# EAGLE library part LPC43*BD (library ic-NXP)
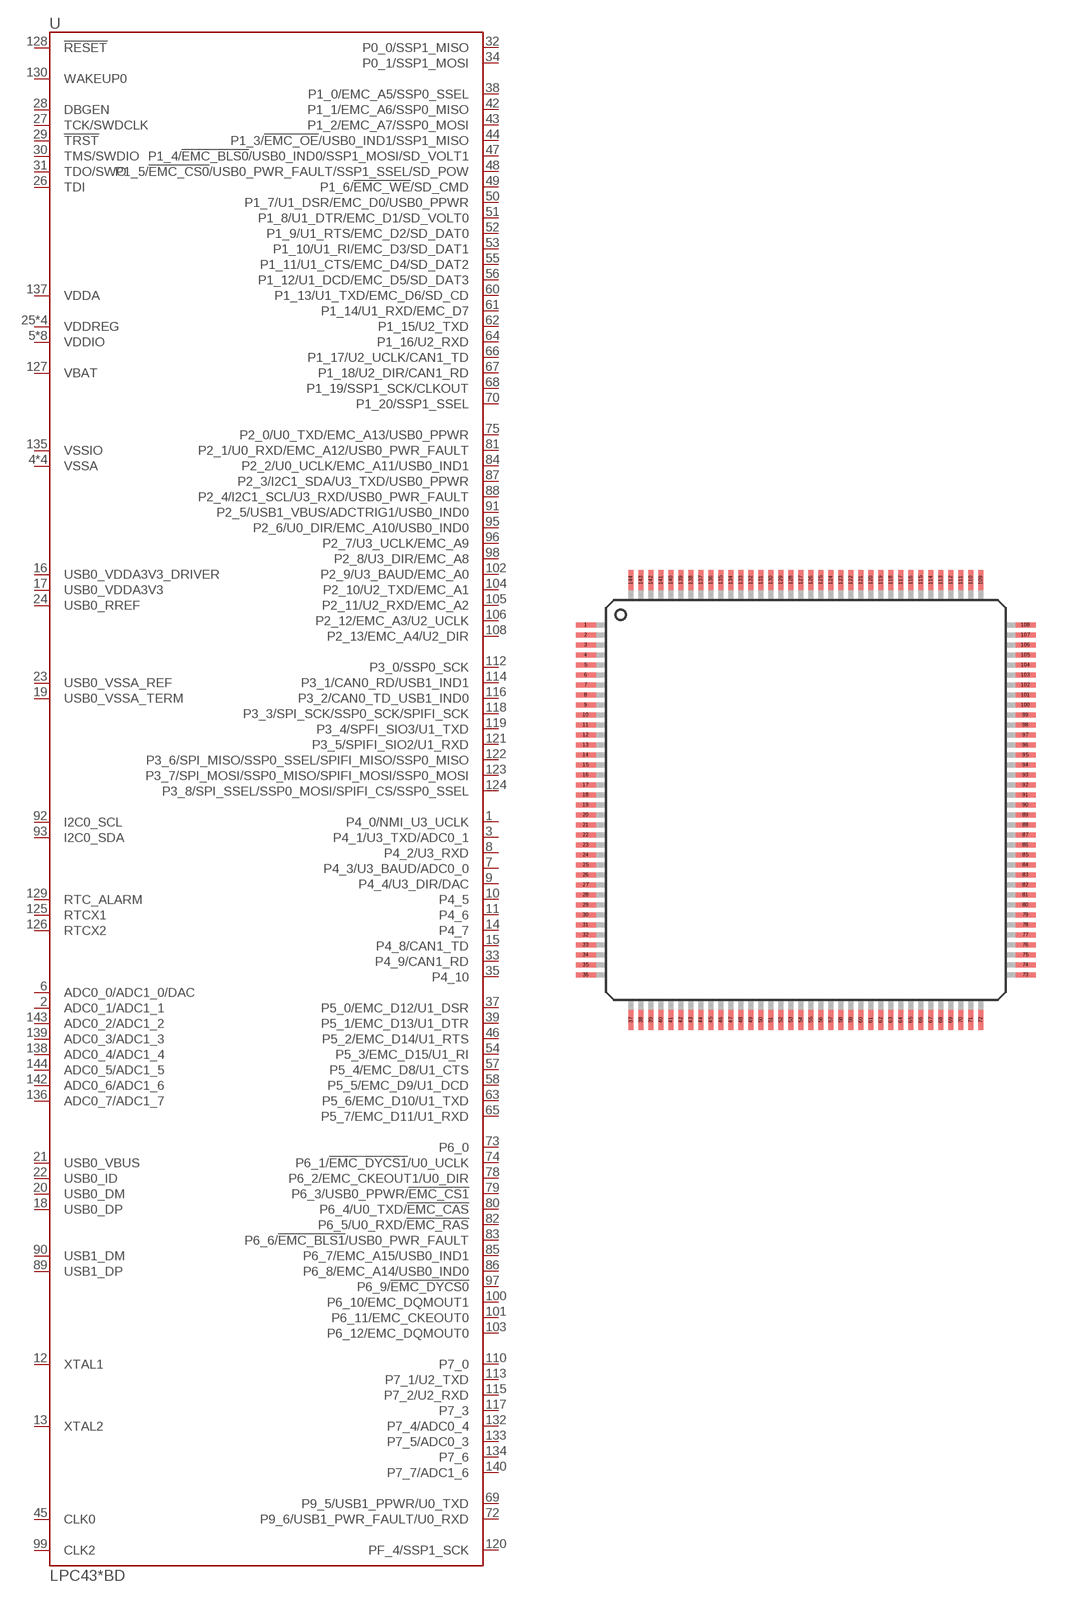
[diagram p5: symbol with the pads of QFP144-0.5; footprint QFP144-0.5]

Designator prefix U

## LPC4330FBD  [QFP144-0.5]
1  P4_0/NMI_U3_UCLK
2  ADC0_1/ADC1_1
3  P4_1/U3_TXD/ADC0_1
4  VSSA
5  VDDIO
6  ADC0_0/ADC1_0/DAC
7  P4_3/U3_BAUD/ADC0_0
8  P4_2/U3_RXD
9  P4_4/U3_DIR/DAC
10  P4_5
11  P4_6
12  XTAL1
13  XTAL2
14  P4_7
15  P4_8/CAN1_TD
16  USB0_VDDA3V3_DRIVER
17  USB0_VDDA3V3
18  USB0_DP
19  USB0_VSSA_TERM
20  USB0_DM
21  USB0_VBUS
22  USB0_ID
23  USB0_VSSA_REF
24  USB0_RREF
25  VDDREG
26  TDI
27  TCK/SWDCLK
28  DBGEN
29  !TRST
30  TMS/SWDIO
31  TDO/SWO
32  P0_0/SSP1_MISO
33  P4_9/CAN1_RD
34  P0_1/SSP1_MOSI
35  P4_10
36  VDDIO
37  P5_0/EMC_D12/U1_DSR
38  P1_0/EMC_A5/SSP0_SSEL
39  P5_1/EMC_D13/U1_DTR
40  VSSA
41  VDDIO
42  P1_1/EMC_A6/SSP0_MISO
43  P1_2/EMC_A7/SSP0_MOSI
44  P1_3/!EMC_OE!/USB0_IND1/SSP1_MISO
45  CLK0
46  P5_2/EMC_D14/U1_RTS
47  P1_4/!EMC_BLS0!/USB0_IND0/SSP1_MOSI/SD_VOLT1
48  P1_5/!EMC_CS0!/USB0_PWR_FAULT/SSP1_SSEL/SD_POW
49  P1_6/!EMC_WE!/SD_CMD
50  P1_7/U1_DSR/EMC_D0/USB0_PPWR
51  P1_8/U1_DTR/EMC_D1/SD_VOLT0
52  P1_9/U1_RTS/EMC_D2/SD_DAT0
53  P1_10/U1_RI/EMC_D3/SD_DAT1
54  P5_3/EMC_D15/U1_RI
55  P1_11/U1_CTS/EMC_D4/SD_DAT2
56  P1_12/U1_DCD/EMC_D5/SD_DAT3
57  P5_4/EMC_D8/U1_CTS
58  P5_5/EMC_D9/U1_DCD
59  VDDREG
60  P1_13/U1_TXD/EMC_D6/SD_CD
61  P1_14/U1_RXD/EMC_D7
62  P1_15/U2_TXD
63  P5_6/EMC_D10/U1_TXD
64  P1_16/U2_RXD
65  P5_7/EMC_D11/U1_RXD
66  P1_17/U2_UCLK/CAN1_TD
67  P1_18/U2_DIR/CAN1_RD
68  P1_19/SSP1_SCK/CLKOUT
69  P9_5/USB1_PPWR/U0_TXD
70  P1_20/SSP1_SSEL
71  VDDIO
72  P9_6/USB1_PWR_FAULT/U0_RXD
73  P6_0
74  P6_1/!EMC_DYCS1!/U0_UCLK
75  P2_0/U0_TXD/EMC_A13/USB0_PPWR
76  VSSA
77  VDDIO
78  P6_2/EMC_CKEOUT1/U0_DIR
79  P6_3/USB0_PPWR/!EMC_CS1!
80  P6_4/U0_TXD/!EMC_CAS!
81  P2_1/U0_RXD/EMC_A12/USB0_PWR_FAULT
82  P6_5/U0_RXD/!EMC_RAS!
83  P6_6/!EMC_BLS1!/USB0_PWR_FAULT
84  P2_2/U0_UCLK/EMC_A11/USB0_IND1
85  P6_7/EMC_A15/USB0_IND1
86  P6_8/EMC_A14/USB0_IND0
87  P2_3/I2C1_SDA/U3_TXD/USB0_PPWR
88  P2_4/I2C1_SCL/U3_RXD/USB0_PWR_FAULT
89  USB1_DP
90  USB1_DM
91  P2_5/USB1_VBUS/ADCTRIG1/USB0_IND0
92  I2C0_SCL
93  I2C0_SDA
94  VDDREG
95  P2_6/U0_DIR/EMC_A10/USB0_IND0
96  P2_7/U3_UCLK/EMC_A9
97  P6_9/!EMC_DYCS0!
98  P2_8/U3_DIR/EMC_A8
99  CLK2
100  P6_10/EMC_DQMOUT1
101  P6_11/EMC_CKEOUT0
102  P2_9/U3_BAUD/EMC_A0
103  P6_12/EMC_DQMOUT0
104  P2_10/U2_TXD/EMC_A1
105  P2_11/U2_RXD/EMC_A2
106  P2_12/EMC_A3/U2_UCLK
107  VDDIO
108  P2_13/EMC_A4/U2_DIR
109  VSSA
110  P7_0
111  VDDIO
112  P3_0/SSP0_SCK
113  P7_1/U2_TXD
114  P3_1/CAN0_RD/USB1_IND1
115  P7_2/U2_RXD
116  P3_2/CAN0_TD_USB1_IND0
117  P7_3
118  P3_3/SPI_SCK/SSP0_SCK/SPIFI_SCK
119  P3_4/SPFI_SIO3/U1_TXD
120  PF_4/SSP1_SCK
121  P3_5/SPIFI_SIO2/U1_RXD
122  P3_6/SPI_MISO/SSP0_SSEL/SPIFI_MISO/SSP0_MISO
123  P3_7/SPI_MOSI/SSP0_MISO/SPIFI_MOSI/SSP0_MOSI
124  P3_8/SPI_SSEL/SSP0_MOSI/SPIFI_CS/SSP0_SSEL
125  RTCX1
126  RTCX2
127  VBAT
128  !RESET
129  RTC_ALARM
130  WAKEUP0
131  VDDREG
132  P7_4/ADC0_4
133  P7_5/ADC0_3
134  P7_6
135  VSSIO
136  ADC0_7/ADC1_7
137  VDDA
138  ADC0_4/ADC1_4
139  ADC0_3/ADC1_3
140  P7_7/ADC1_6
141  VDDIO
142  ADC0_6/ADC1_6
143  ADC0_2/ADC1_2
144  ADC0_5/ADC1_5

## Footprint QFP144-0.5 (pad centres in mm)
smd 1 x 0.25: 1 -11,8.75; 2 -11,8.25; 3 -11,7.75; 4 -11,7.25; 5 -11,6.75; 6 -11,6.25; 7 -11,5.75; 8 -11,5.25; 9 -11,4.75; 10 -11,4.25; 11 -11,3.75; 12 -11,3.25; 13 -11,2.75; 14 -11,2.25; 15 -11,1.75; 16 -11,1.25; 17 -11,0.75; 18 -11,0.25; 19 -11,-0.25; 20 -11,-0.75; 21 -11,-1.25; 22 -11,-1.75; 23 -11,-2.25; 24 -11,-2.75; 25 -11,-3.25; 26 -11,-3.75; 27 -11,-4.25; 28 -11,-4.75; 29 -11,-5.25; 30 -11,-5.75; 31 -11,-6.25; 32 -11,-6.75; 33 -11,-7.25; 34 -11,-7.75; 35 -11,-8.25; 36 -11,-8.75; 73 11,-8.75; 74 11,-8.25; 75 11,-7.75; 76 11,-7.25; 77 11,-6.75; 78 11,-6.25; 79 11,-5.75; 80 11,-5.25; 81 11,-4.75; 82 11,-4.25; 83 11,-3.75; 84 11,-3.25; 85 11,-2.75; 86 11,-2.25; 87 11,-1.75; 88 11,-1.25; 89 11,-0.75; 90 11,-0.25; 91 11,0.25; 92 11,0.75; 93 11,1.25; 94 11,1.75; 95 11,2.25; 96 11,2.75; 97 11,3.25; 98 11,3.75; 99 11,4.25; 100 11,4.75; 101 11,5.25; 102 11,5.75; 103 11,6.25; 104 11,6.75; 105 11,7.25; 106 11,7.75; 107 11,8.25; 108 11,8.75
smd 0.25 x 1: 37 -8.75,-11; 38 -8.25,-11; 39 -7.75,-11; 40 -7.25,-11; 41 -6.75,-11; 42 -6.25,-11; 43 -5.75,-11; 44 -5.25,-11; 45 -4.75,-11; 46 -4.25,-11; 47 -3.75,-11; 48 -3.25,-11; 49 -2.75,-11; 50 -2.25,-11; 51 -1.75,-11; 52 -1.25,-11; 53 -0.75,-11; 54 -0.25,-11; 55 0.25,-11; 56 0.75,-11; 57 1.25,-11; 58 1.75,-11; 59 2.25,-11; 60 2.75,-11; 61 3.25,-11; 62 3.75,-11; 63 4.25,-11; 64 4.75,-11; 65 5.25,-11; 66 5.75,-11; 67 6.25,-11; 68 6.75,-11; 69 7.25,-11; 70 7.75,-11; 71 8.25,-11; 72 8.75,-11; 109 8.75,11; 110 8.25,11; 111 7.75,11; 112 7.25,11; 113 6.75,11; 114 6.25,11; 115 5.75,11; 116 5.25,11; 117 4.75,11; 118 4.25,11; 119 3.75,11; 120 3.25,11; 121 2.75,11; 122 2.25,11; 123 1.75,11; 124 1.25,11; 125 0.75,11; 126 0.25,11; 127 -0.25,11; 128 -0.75,11; 129 -1.25,11; 130 -1.75,11; 131 -2.25,11; 132 -2.75,11; 133 -3.25,11; 134 -3.75,11; 135 -4.25,11; 136 -4.75,11; 137 -5.25,11; 138 -5.75,11; 139 -6.25,11; 140 -6.75,11; 141 -7.25,11; 142 -7.75,11; 143 -8.25,11; 144 -8.75,11